# EAGLE library part BOARD4YOU_MUN5311DW1T1G (library CrazyRemote)
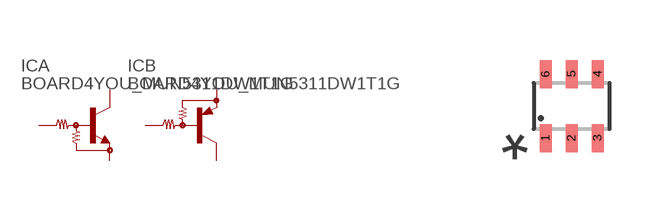
[diagram p1: symbol with the pads of BOARD4YOU_SOT363; footprint BOARD4YOU_SOT363]

Designator prefix IC; gates A=BOARD4YOU_MUN5311DW1T1G_A B=BOARD4YOU_MUN5311DW1T1G_B

## BOARD4YOU_MUN5311DW1T1G  [BOARD4YOU_SOT363]
1  A:E(1)  pas
2  A:B(2)  pas
3  B:C(3)  pas
4  B:E(4)  pas
5  B:B(5)  pas
6  A:C(6)  pas

## Footprint BOARD4YOU_SOT363 (pad centres in mm)
smd 0.3 x 0.7: 1 -0.65,-0.8; 2 0,-0.8; 3 0.65,-0.8; 4 0.65,0.8; 5 0,0.8; 6 -0.65,0.8